# EAGLE library part MCP23S17-E_SO (library MCP23S17-E_SO)
16-bit I/O Expander,SPI,MCP23S17-E/SO Source: Datasheet <https://datasheet.datasheetarchive.com/originals/distributors/SFDatasheet-4/sf-00090057.pdf>
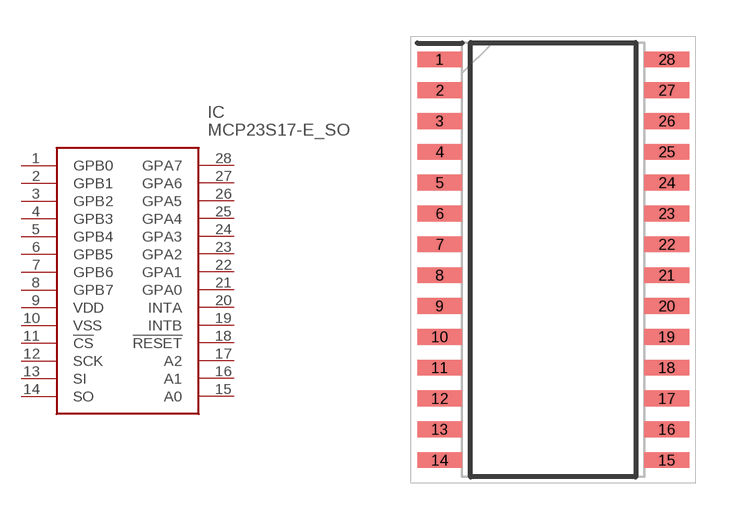
[diagram p0: symbol with the pads of SOIC127P1030X265-28N; footprint SOIC127P1030X265-28N]

Designator prefix IC

## MCP23S17-E_SO (Description: 16-bit I/O Expander,SPI,MCP23S17-E/SO; Height: 2.65mm; Manufacturer_Name: Microchip; Manufacturer_Part_Number: MCP23S17-E/SO; Mouser_Part_Number: 579-MCP23S17-E/SO; Mouser_Price-Stock: https://www.mouser.co.uk/ProductDetail/Microchip-Technology/MCP23S17-E-SO?qs=usxtMOJb1RzJScThsWtScg%3D%3D)  [SOIC127P1030X265-28N]
1  GPB0
2  GPB1
3  GPB2
4  GPB3
5  GPB4
6  GPB5
7  GPB6
8  GPB7
9  VDD
10  VSS
11  !CS
12  SCK
13  SI
14  SO
15  A0
16  A1
17  A2
18  !RESET
19  INTB
20  INTA
21  GPA0
22  GPA1
23  GPA2
24  GPA3
25  GPA4
26  GPA5
27  GPA6
28  GPA7

## Footprint SOIC127P1030X265-28N (pad centres in mm)
28 LEAD PLastic Small Outline (S))-Wide 7.50mm body [SOIC]
smd 1.85 x 0.65: 1 -4.675,8.255; 2 -4.675,6.985; 3 -4.675,5.715; 4 -4.675,4.445; 5 -4.675,3.175; 6 -4.675,1.905; 7 -4.675,0.635; 8 -4.675,-0.635; 9 -4.675,-1.905; 10 -4.675,-3.175; 11 -4.675,-4.445; 12 -4.675,-5.715; 13 -4.675,-6.985; 14 -4.675,-8.255; 15 4.675,-8.255; 16 4.675,-6.985; 17 4.675,-5.715; 18 4.675,-4.445; 19 4.675,-3.175; 20 4.675,-1.905; 21 4.675,-0.635; 22 4.675,0.635; 23 4.675,1.905; 24 4.675,3.175; 25 4.675,4.445; 26 4.675,5.715; 27 4.675,6.985; 28 4.675,8.255